# EAGLE library part K64F_ADAPTER (library CMPE-460-NXPCUP)
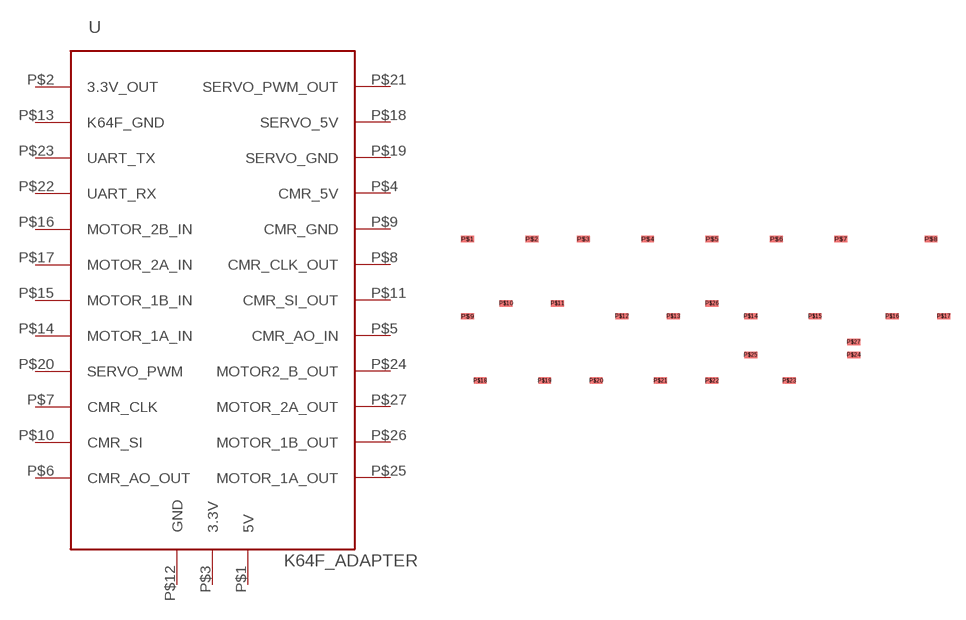
[diagram p1: symbol with the pads of K64F_ADAPTER; footprint K64F_ADAPTER]

Designator prefix -

## K64F_ADAPTER  [K64F_ADAPTER]
P$1  5V
P$2  3.3V_OUT
P$3  3.3V
P$4  CMR_5V
P$5  CMR_AO_IN
P$6  CMR_AO_OUT
P$7  CMR_CLK
P$8  CMR_CLK_OUT
P$9  CMR_GND
P$10  CMR_SI
P$11  CMR_SI_OUT
P$12  GND
P$13  K64F_GND
P$14  MOTOR_1A_IN
P$15  MOTOR_1B_IN
P$16  MOTOR_2B_IN
P$17  MOTOR_2A_IN
P$18  SERVO_5V
P$19  SERVO_GND
P$20  SERVO_PWM
P$21  SERVO_PWM_OUT
P$22  UART_RX
P$23  UART_TX
P$24  MOTOR2_B_OUT
P$25  MOTOR_1A_OUT
P$26  MOTOR_1B_OUT
P$27  MOTOR_2A_OUT

## Footprint K64F_ADAPTER (pad centres in mm)
smd 1.27 x 0.635: P$1 -25.4,6.35; P$2 -19.05,6.35; P$3 -13.97,6.35; P$4 -7.62,6.35; P$5 -1.27,6.35; P$6 5.08,6.35; P$7 11.43,6.35; P$8 20.32,6.35; P$9 -25.4,-1.27; P$10 -21.59,0; P$11 -16.51,0; P$12 -10.16,-1.27; P$13 -5.08,-1.27; P$14 2.54,-1.27; P$15 8.89,-1.27; P$16 16.51,-1.27; P$17 21.59,-1.27; P$18 -24.13,-7.62; P$19 -17.78,-7.62; P$20 -12.7,-7.62; P$21 -6.35,-7.62; P$22 -1.27,-7.62; P$23 6.35,-7.62; P$24 12.7,-5.08; P$25 2.54,-5.08; P$26 -1.27,0; P$27 12.7,-3.81